# Altium footprint library Header.PcbLib: 14 footprints
Each footprint in its own frame and in the unit in brackets; x right, y up, seen from the top. Pads: shape width x height; smd on the part's side, far side on the other; paste and mask are expansions set on the pad; w line width, h text height; cw(c..) or ccw(c..) is an arc to the next point about the centre after c.
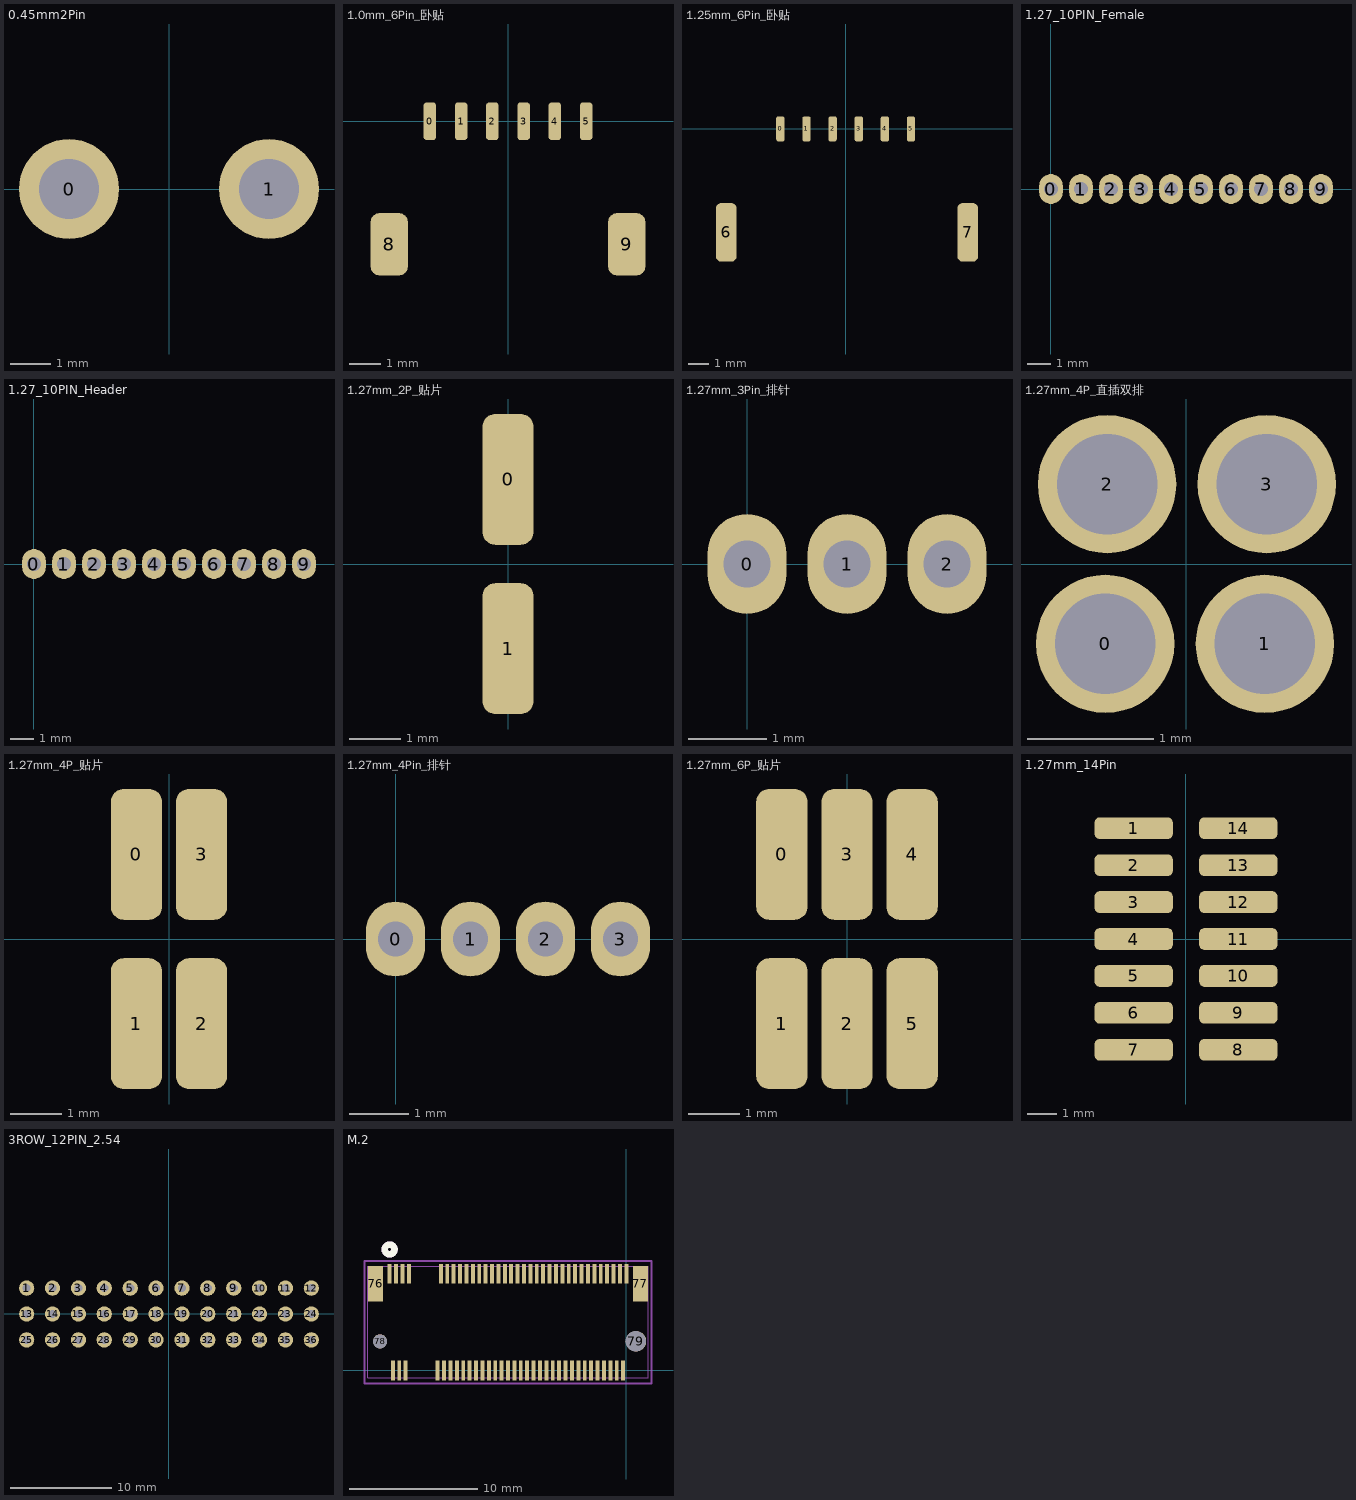
[diagram p0: the footprints below, top view; thin cyan lines are the x and y axes]

## 0.45mm2Pin [mm]
pads (2):
  round 2.5 hole 1.5: 0(-2.5,0) 1(2.5,0)

## 1.0mm_6Pin_卧贴 [mm]
pads (8):
  rrect50% 0.4x1.2 smd: 0(-2.5,0) 1(-1.5,0) 2(-0.5,0) 3(0.5,0) 4(1.5,0) 5(2.5,0)
  rrect50% 1.2x2 smd: 8(-3.8,-3.937) 9(3.8,-3.937)
3D body: height 0.25, standoff 0, extent -4.699,0.508 -4.699,0.508
3D body "User Library-JST - SM06B-SRSS-TB (SH SERIES - 1_0mm PITCH WIRE-TO-BOARD, SMT, RA).STEP": height 2.9, standoff 0, extent -4,-4.826 4,0.124

## 1.25mm_6Pin_卧贴 [mm]
pads (8):
  rrect50% 0.4x1.2 smd: 0(-3.125,0) 1(-1.875,0) 2(-0.625,0) 3(0.625,0) 4(1.875,0) 5(3.125,0)
  rrect50% 1x2.8 smd: 6(-5.715,-4.953) 7(5.842,-4.953)
3D body "47653.stp": height 2.5, standoff -0.4, extent -6.225,-6.319 6.225,0.381

## 1.27_10PIN_Female [mm]
pads (10):
  oval 1x1.27 hole 0.6: 0(0,0) 1(1.27,0) 2(2.54,0) 3(3.81,0) 4(5.08,0) 5(6.35,0) 6(7.62,0) 7(8.89,0) 8(10.16,0) 9(11.43,0)
3D body "User Library-PIN-Header-1_27-female_1x10.STEP": height 4.35, standoff -2.8, extent -0.985,-0.885 12.415,0.925

## 1.27_10PIN_Header [mm]
pads (10):
  oval 1x1.27 hole 0.6: 0(0,0) 1(1.27,0) 2(2.54,0) 3(3.81,0) 4(5.08,0) 5(6.35,0) 6(7.62,0) 7(8.89,0) 8(10.16,0) 9(11.43,0)
3D body "User Library-PIN-Header-1_27_1x10.STEP": height 4.85, standoff -2.4, extent -0.635,-1.13 12.065,1.27

## 1.27mm_2P_贴片 [mm]
pads (2):
  rrect50% 1x2.55 smd: 0(0,1.65) 1(0,-1.65)
3D body "User Library-RM127_2pin_Header.sldprt": height 4.5, standoff 0, extent -0.645,-2.75 0.625,2.75

## 1.27mm_3Pin_排针 [mm]
pads (3):
  oval 1x1.27 hole 0.6: 0(0,0) 1(1.27,0) 2(2.54,0)
3D body "User Library-PIN-Header-1_27_1x3.STEP": height 4.2, standoff -3.05, extent -0.635,-1.2 3.175,1.2

## 1.27mm_4P_直插双排 [mm]
pads (4):
  round 1.1 hole 0.8: 0(-0.643,-0.635) 1(0.627,-0.635) 2(-0.627,0.635) 3(0.643,0.635)
3D body "User Library-PinHeader1_27_2.STEP": height 4.1, standoff -3.2, extent -1.262,-0.565 1.277,1.835
3D body "User Library-PinHeader1_27_2.STEP": height 4.1, standoff -3.2, extent -1.277,-1.835 1.262,0.565

## 1.27mm_4P_贴片 [mm]
pads (4):
  rrect50% 1x2.55 smd: 0(-0.635,1.65) 1(-0.635,-1.65) 2(0.635,-1.65) 3(0.635,1.65)
3D body "User Library-RM127_4pin_Header.sldprt": height 4.5, standoff 0, extent -1.26,-2.751 1.28,2.749

## 1.27mm_4Pin_排针 [mm]
pads (4):
  oval 1x1.27 hole 0.6: 0(0,0) 1(1.27,0) 2(2.54,0) 3(3.81,0)
3D body "User Library-PinHeader1_27_2.STEP": height 4.1, standoff -3.2, extent 1.905,-1.2 4.445,1.2
3D body "User Library-PinHeader1_27_2.STEP": height 4.1, standoff -3.2, extent -0.635,-1.2 1.905,1.2

## 1.27mm_6P_贴片 [mm]
pads (6):
  rrect50% 1x2.55 smd: 0(-1.27,1.65) 1(-1.27,-1.65) 2(0,-1.65) 3(0,1.65) 4(1.27,1.65) 5(1.27,-1.65)
3D body "User Library-RM127_6pin_Header.STEP": height 4.5, standoff 0, extent -1.92,-2.775 1.89,2.725

## 1.27mm_14Pin [mm]
pads (14):
  rrect50% 2.7x0.75 smd paste+0 mask+0.102: 1(-1.8,3.81) 2(-1.8,2.54) 3(-1.8,1.27) 4(-1.8,0) 5(-1.8,-1.27) 6(-1.8,-2.54) 7(-1.8,-3.81) 8(1.8,-3.81) 9(1.8,-2.54) 10(1.8,-1.27) 11(1.8,0) 12(1.8,1.27) 13(1.8,2.54) 14(1.8,3.81)
3D body "2002112100014d4lf.stp": height 4.5, standoff 0, extent -2.75,-4.445 2.75,4.445

## 3ROW_12PIN_2.54 [mm]
pads (36):
  round 1.5 hole 0.8 paste+0 mask+0.102: 1(-13.97,2.54) 2(-11.43,2.54) 3(-8.89,2.54) 4(-6.35,2.54) 5(-3.81,2.54) 6(-1.27,2.54) 7(1.27,2.54) 8(3.81,2.54) 9(6.35,2.54) 10(8.89,2.54) 11(11.43,2.54) 12(13.97,2.54) 13(-13.97,0) 14(-11.43,0) 15(-8.89,0) 16(-6.35,0) 17(-3.81,0) 18(-1.27,0) 19(1.27,0) 20(3.81,0) 21(6.35,0) 22(8.89,0) 23(11.43,0) 24(13.97,0) 25(-13.97,-2.54) 26(-11.43,-2.54) 27(-8.89,-2.54) 28(-6.35,-2.54) 29(-3.81,-2.54) 30(-1.27,-2.54) 31(1.27,-2.54) 32(3.81,-2.54) 33(6.35,-2.54) 34(8.89,-2.54) 35(11.43,-2.54) 36(13.97,-2.54)
3D body "User Library-3X1header2_54MM.step": height 8.31, standoff -1.93, extent 12.68,-12.57 15.22,2.89
3D body "User Library-3X1header2_54MM.step": height 8.31, standoff -1.93, extent 10.14,-12.57 12.68,2.89
3D body "User Library-3X1header2_54MM.step": height 8.31, standoff -1.93, extent 7.6,-12.57 10.14,2.89
3D body "User Library-3X1header2_54MM.step": height 8.31, standoff -1.93, extent 5.06,-12.57 7.6,2.89
3D body "User Library-3X1header2_54MM.step": height 8.31, standoff -1.93, extent 2.52,-12.57 5.06,2.89
3D body "User Library-3X1header2_54MM.step": height 8.31, standoff -1.93, extent -0.02,-12.57 2.52,2.89
3D body "User Library-3X1header2_54MM.step": height 8.31, standoff -1.93, extent -2.56,-12.57 -0.02,2.89
3D body "User Library-3X1header2_54MM.step": height 8.31, standoff -1.93, extent -5.1,-12.57 -2.56,2.89
3D body "User Library-3X1header2_54MM.step": height 8.31, standoff -1.93, extent -7.64,-12.57 -5.1,2.89
3D body "User Library-3X1header2_54MM.step": height 8.31, standoff -1.93, extent -10.18,-12.57 -7.64,2.89
3D body "User Library-3X1header2_54MM.step": height 8.31, standoff -1.93, extent -12.72,-12.57 -10.18,2.89
3D body "User Library-3X1header2_54MM.step": height 8.31, standoff -1.93, extent -15.26,-12.57 -12.72,2.89

## M.2 [mil]
pads (71):
  rect 12x61 smd paste+0 mask+0: 1(-728.35,297.24) 2(-718.5,0) 3(-708.66,297.24) 4(-698.82,0) 5(-688.98,297.24) 6(-679.13,0) 7(-669.29,297.24) 16(-580.71,0) 17(-570.87,297.24) 18(-561.02,0) 19(-551.18,297.24) 20(-541.34,0) 21(-531.5,297.24) 22(-521.65,0) 23(-511.81,297.24) 24(-501.97,0) 25(-492.13,297.24) 26(-482.28,0) 27(-472.44,297.24) 28(-462.6,0) 29(-452.76,297.24) 30(-442.91,0) 31(-433.07,297.24) 32(-423.23,0) 33(-413.39,297.24) 34(-403.54,0) 35(-393.7,297.24) 36(-383.86,0) 37(-374.02,297.24) 38(-364.17,0) 39(-354.33,297.24) 40(-344.49,0) 41(-334.65,297.24) 42(-324.8,0) 43(-314.96,297.24) 44(-305.12,0) 45(-295.28,297.24) 46(-285.43,0) 47(-275.59,297.24) 48(-265.75,0) 49(-255.91,297.24) 50(-246.06,0) 51(-236.22,297.24) 52(-226.38,0) 53(-216.54,297.24) 54(-206.69,0) 55(-196.85,297.24) 56(-187.01,0) 57(-177.17,297.24) 58(-167.32,0) 59(-157.48,297.24) 60(-147.64,0) 61(-137.8,297.24) 62(-127.95,0) 63(-118.11,297.24) 64(-108.27,0) 65(-98.43,297.24) 66(-88.58,0) 67(-78.74,297.24) 68(-68.9,0) 69(-59.06,297.24) 70(-49.21,0) 71(-39.37,297.24) 72(-29.53,0) 73(-19.68,297.24) 74(-9.84,0) 75(0,297.24)
  rect 47x108 smd: 76(-771.65,266.73) 77(43.31,266.73)
  round 43 hole 43: 78(-757.87,89.57)
  round 63 hole 63: 79(29.53,89.57)
Top Overlay:
  circle w20: c-728.35,372.24 r15
Bottom Overlay:
  circle w20: c-728.35,372.24 r15
Mechanical 13:
  circle w20: c-728.35,372.24 r15
  lines w1: -795.17,-22.88 -795.17,320.12 66.83,320.12 66.83,-22.88 -795.17,-22.88
Mechanical 15:
  lines w6: -805.17,-40 76.83,-40 76.83,337 -805.17,337 -805.17,-40
3D body "2377471_2199119-3.stp": height 121.46, standoff -24.21, extent -796.1,-23.78 66.1,318.74